# EAGLE library part ACS711 (library DMM)
Hall Effect Linear Current Sensor with Overcurrent Fault Output for 100 V Isolation Applications
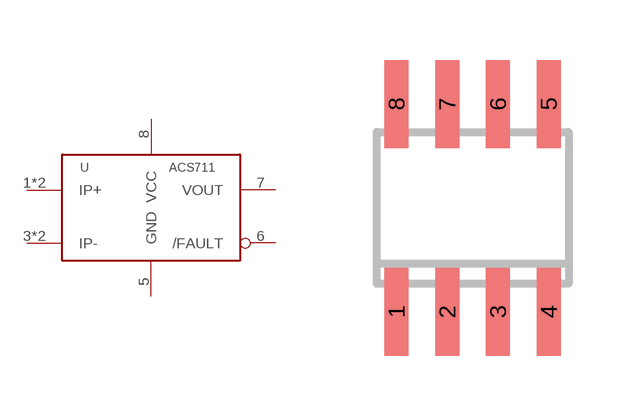
[diagram p0: symbol with the pads of SO8; footprint SO8]

Designator prefix -

## ACS711  [SO8]
1  IP+
2  IP+
3  IP-
4  IP-
5  GND  pwr
6  /FAULT
7  VOUT  out
8  VCC  pwr

## Footprint SO8 (pad centres in mm)
Standard SO8 package
smd 0.6 x 2.2: 1 -1.905,-2.6; 2 -0.635,-2.6; 3 0.635,-2.6; 4 1.905,-2.6; 5 1.905,2.6; 6 0.635,2.6; 7 -0.635,2.6; 8 -1.905,2.6